# Altium footprint library FPC.PcbLib: 5 footprints
Each footprint in its own frame and in the unit in brackets; x right, y up, seen from the top. Pads: shape width x height; smd on the part's side, far side on the other; paste and mask are expansions set on the pad; w line width, h text height; cw(c..) or ccw(c..) is an arc to the next point about the centre after c.
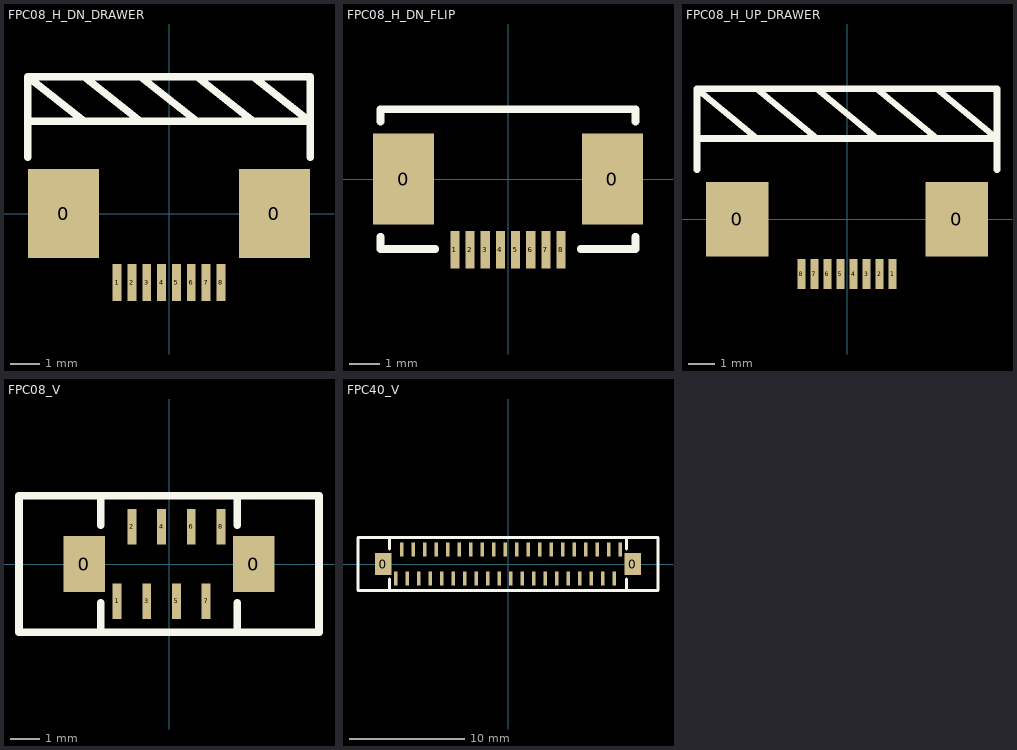
[diagram p0: the footprints below, top view; thin cyan lines are the x and y axes]

## FPC08_H_DN_DRAWER [mm]
height 2
pads (10):
  rect 2.4x3 smd: 0(-3.55,0) 0(3.55,0)
  rect 0.3x1.25 smd: 1(-1.75,-2.325) 2(-1.25,-2.325) 3(-0.75,-2.325) 4(-0.25,-2.325) 5(0.25,-2.325) 6(0.75,-2.325) 7(1.25,-2.325) 8(1.75,-2.325)
Top Overlay:
  lines w0.254: -4.75,1.9 -4.75,3.1 ; -2.85,3.1 -4.75,4.6 ; -2.85,4.6 -0.95,3.1 ; -0.95,4.6 0.95,3.1 ; 0.95,4.6 2.85,3.1 ; 2.85,4.6 4.75,3.1 ; 4.75,1.9 4.75,3.1 ; -4.75,3.1 4.75,3.1 ; -4.75,3.1 -4.75,4.6 ; -4.75,4.6 4.75,4.6 4.75,3.1

## FPC08_H_DN_FLIP [mm]
height 2
pads (10):
  rect 2x3 smd: 0(-3.44,0) 0(3.44,0)
  rect 0.3x1.25 smd: 1(-1.75,-2.325) 2(-1.25,-2.325) 3(-0.75,-2.325) 4(-0.25,-2.325) 5(0.25,-2.325) 6(0.75,-2.325) 7(1.25,-2.325) 8(1.75,-2.325)
Top Overlay:
  lines w0.254: -4.2,-1.9 -4.2,-2.3 -2.4,-2.3 ; -4.2,1.9 -4.2,2.3 4.2,2.3 4.2,1.9 ; 2.4,-2.3 4.2,-2.3 4.2,-1.9

## FPC08_H_UP_DRAWER [mm]
height 2
pads (10):
  rect 2.4x2.85 smd: 0(-4.2,0) 0(4.2,0)
  rect 0.3x1.15 smd: 1(1.75,-2.1) 2(1.25,-2.1) 3(0.75,-2.1) 4(0.25,-2.1) 5(-0.25,-2.1) 6(-0.75,-2.1) 7(-1.25,-2.1) 8(-1.75,-2.1)
Top Overlay:
  lines w0.254: -5.75,1.9 -5.75,3.1 ; -3.45,3.1 -5.75,5 ; -3.45,5 -1.15,3.1 ; -1.15,5 1.15,3.1 ; 1.15,5 3.45,3.1 ; 3.45,5 5.75,3.1 ; 5.75,1.9 5.75,3.1 ; -5.75,3.1 5.75,3.1 ; -5.75,3.1 -5.75,5 ; -5.75,5 5.75,5 5.75,3.1

## FPC08_V [mm]
height 5.2
pads (10):
  rect 1.4x1.9 smd: 0(-2.85,0) 0(2.85,0)
  rect 0.3x1.2 smd: 1(-1.75,-1.25) 2(-1.25,1.25) 3(-0.75,-1.25) 4(-0.25,1.25) 5(0.25,-1.25) 6(0.75,1.25) 7(1.25,-1.25) 8(1.75,1.25)
Top Overlay:
  lines w0.254: -2.3,-2.3 -2.3,-1.3 ; -2.3,1.3 -2.3,2.3 ; 2.3,-2.3 2.3,-1.3 ; 2.3,1.3 2.3,2.3 ; -5.05,-2.3 5.05,-2.3 5.05,2.3 -5.05,2.3 -5.05,-2.3

## FPC40_V [mm]
height 5.2
pads (42):
  rect 1.4x1.9 smd: 0(-10.85,0) 0(10.85,0)
  rect 0.3x1.2 smd: 1(-9.75,-1.25) 2(-9.25,1.25) 3(-8.75,-1.25) 4(-8.25,1.25) 5(-7.75,-1.25) 6(-7.25,1.25) 7(-6.75,-1.25) 8(-6.25,1.25) 9(-5.75,-1.25) 10(-5.25,1.25) 11(-4.75,-1.25) 12(-4.25,1.25) 13(-3.75,-1.25) 14(-3.25,1.25) 15(-2.75,-1.25) 16(-2.25,1.25) 17(-1.75,-1.25) 18(-1.25,1.25) 19(-0.75,-1.25) 20(-0.25,1.25) 21(0.25,-1.25) 22(0.75,1.25) 23(1.25,-1.25) 24(1.75,1.25) 25(2.25,-1.25) 26(2.75,1.25) 27(3.25,-1.25) 28(3.75,1.25) 29(4.25,-1.25) 30(4.75,1.25) 31(5.25,-1.25) 32(5.75,1.25) 33(6.25,-1.25) 34(6.75,1.25) 35(7.25,-1.25) 36(7.75,1.25) 37(8.25,-1.25) 38(8.75,1.25) 39(9.25,-1.25) 40(9.75,1.25)
Top Overlay:
  lines w0.254: -10.3,-2.3 -10.3,-1.3 ; -10.3,1.3 -10.3,2.3 ; 10.3,-2.3 10.3,-1.3 ; 10.3,1.3 10.3,2.3 ; -13.05,-2.3 13.05,-2.3 13.05,2.3 -13.05,2.3 -13.05,-2.3